# Altium footprint library Connectors.PcbLib: 6 footprints
Each footprint in its own frame and in the unit in brackets; x right, y up, seen from the top. Pads: shape width x height; smd on the part's side, far side on the other; paste and mask are expansions set on the pad; w line width, h text height; cw(c..) or ccw(c..) is an arc to the next point about the centre after c.
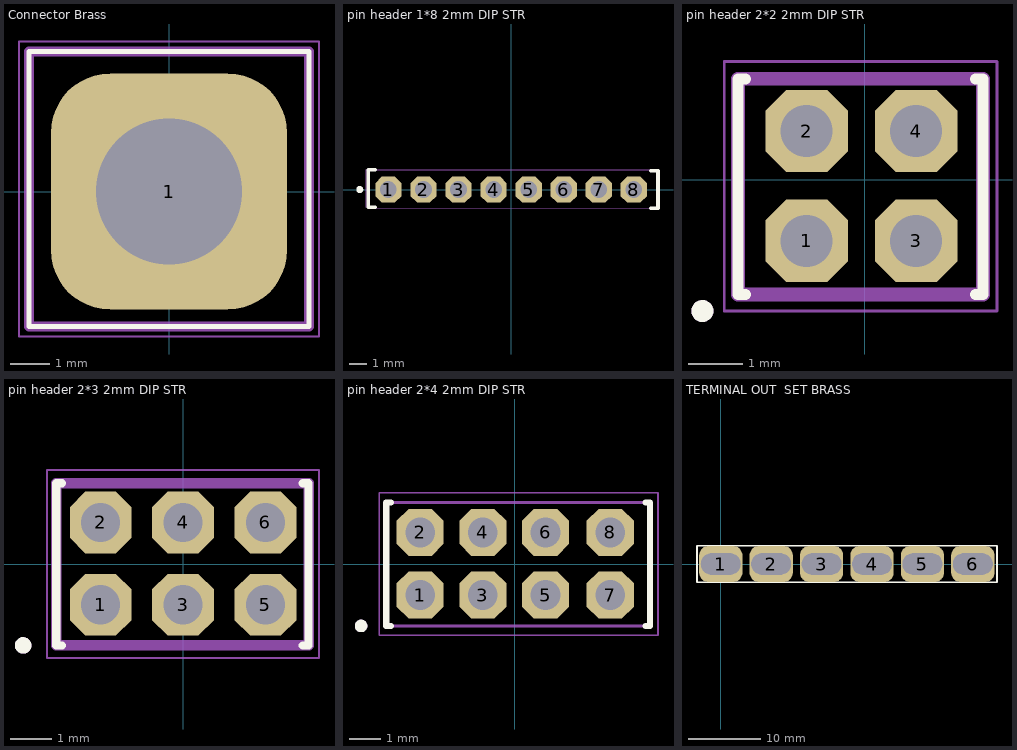
[diagram p0: the footprints below, top view; thin cyan lines are the x and y axes]

## Connector Brass [mm]
pads (1):
  rrect50% 6x6 / inner rrect50% 0x0 / far side rrect50% 0x0 hole 3.7: 1(0,0)
Top Overlay:
  lines w0.127: -3.556,-3.429 -3.556,3.556 3.556,3.556 3.556,-3.429 -3.556,-3.429
Mechanical 4:
  lines w0.127: -3.556,-3.429 3.556,-3.429 3.556,3.556 -3.556,3.556 -3.556,-3.429
Top Courtyard:
  lines w0.254: -3.556,-3.429 -3.556,3.556 3.556,3.556 3.556,-3.429 -3.556,-3.429
Mechanical 16:
  lines w0.05: -3.81,-3.683 -3.81,3.81 3.81,3.81 3.81,-3.683 -3.81,-3.683
3D body "NORDEX-DEFAULT.step": height 6, standoff -1.54, extent -2.413,-2.413 2.413,2.413

## pin header 1*8 2mm DIP STR [mm] "pin header 1*8 2mm DIP STR"
pads (8):
  oct 1.501x1.501 / inner oct 1.524x1.524 / far side oct 1.501x1.501 hole 0.95: 1(-7,0) 2(-5,0) 3(-3,0) 4(-1,0) 5(1,0) 6(3,0) 7(5,0) 8(7,0)
Top Overlay:
  circle w0.2: c-8.636,0 r0.1
  lines w0.2: -7.747,-1.016 -8.159,-1.016 -8.159,1.143 -7.747,1.143 ; 7.97,-1.079 8.382,-1.079 8.382,1.079 7.97,1.079
Mechanical 15:
  lines w0.05: -8.255,-1.016 -8.255,1.143 8.382,1.143 8.382,-1.079 -8.096,-1.035

## pin header 2*2 2mm DIP STR [mm] "pin header 2*4 2mm DIP STR"
pads (4):
  oct 1.501x1.501 / inner oct 1.524x1.524 / far side oct 1.501x1.501 hole 0.95: 1(-1.063,-1.116) 2(-1.063,0.889) 3(0.937,-1.116) 4(0.937,0.889)
Top Overlay:
  circle w0.2: c-2.967,-2.4 r0.1
  lines w0.2: -2.177,-2.097 -2.317,-2.097 -2.317,1.843 -2.177,1.843 ; 2.019,-2.097 2.159,-2.097 2.159,1.843 2.019,1.843
Top Courtyard:
  lines w0.254: -2.317,-2.097 2.159,-2.097 2.159,1.843 -2.317,1.843 -2.317,-2.097
Mechanical 13:
  circle w0.2: c-2.967,-2.4 r0.1
  lines w0.1: -2.317,-2.097 -2.317,1.843 ; -2.317,-2.097 2.159,-2.097 2.159,1.843 -2.317,1.843 ; -2.317,-2.097 -2.317,1.843
Mechanical 15:
  lines w0.05: -2.567,-2.4 2.413,-2.4 2.413,2.159 -2.567,2.159 -2.567,-2.4
3D body "62000421121.stp": height 6.01, standoff -2.69, extent -2.127,-2.127 1.873,1.873

## pin header 2*3 2mm DIP STR [mm]
pads (6):
  oct 1.501x1.501 / inner oct 1.524x1.524 / far side oct 1.501x1.501 hole 0.95: 1(-2,-0.984) 2(-2,1.016) 3(0,-0.984) 4(0,1.016) 5(2,-0.984) 6(2,1.016)
Top Overlay:
  circle w0.2: c-3.883,-1.97 r0.1
  lines w0.2: -2.939,-1.97 -3.079,-1.97 -3.079,1.97 -2.939,1.97 ; 2.908,-1.97 3.048,-1.97 3.048,1.97 2.908,1.97
Top Courtyard:
  lines w0.254: -3.079,-1.97 3.048,-1.97 3.048,1.97 -3.079,1.97 -3.079,-1.97
Mechanical 13:
  circle w0.2: c-3.883,-1.97 r0.1
  lines w0.1: 2.978,1.97 -3.079,1.97 ; -3.079,-1.97 -3.079,-1.716 -3.079,1.97 ; -3.079,-1.97 3.048,-1.97 3.048,1.97 -3.079,1.97 ; -3.079,-1.97 -3.079,1.97
Mechanical 15:
  lines w0.05: -3.302,-2.273 -3.302,2.286 3.302,2.286 3.302,-2.273 -3.302,-2.273
3D body "62000621121.stp": height 6.01, standoff -2.69, extent -3,-2 3,2

## pin header 2*4 2mm DIP STR [mil] "pin header 2*4 2mm DIP STR"
pads (8):
  oct 59.08x59.08 / inner oct 60x60 / far side oct 59.08x59.08 hole 37.4: 1(-118.74,-38.74) 2(-118.74,40) 3(-40,-38.74) 4(-40,40) 5(38.74,-38.74) 6(38.74,40) 7(120,-38.74) 8(120,40)
Top Overlay:
  circle w7.87: c-192.87,-77.56 r3.94
  lines w7.87: -155.71,-77.56 -161.22,-77.56 -161.22,77.56 -155.71,77.56 ; 164.49,-77.56 170,-77.56 170,77.56 164.49,77.56
Mechanical 13:
  circle w7.87: c-192.87,-77.56 r3.94
  lines w3.94: 77.24,77.56 -161.22,77.56 ; -161.22,-77.56 -161.22,-67.56 -161.22,77.56 ; -161.22,-77.56 170,-77.56 170,77.56 -161.22,77.56 ; -161.22,-77.56 -161.22,77.56
Mechanical 15:
  lines w1.97: -170,-89.47 -170,90 180,90 180,-89.47 -170,-89.47
3D body "62000821121.stp": height 236.72, standoff -105.8, extent -157.48,-83.73 157.48,73.74

## TERMINAL OUT  SET BRASS [mm] "TERMINAL OUT  SET BRASS"
pads (6):
  rrect50% 6x5 hole 3 slot 5.5 at 0 deg: 1(0,0) 2(7,0) 3(14,0) 4(21,0) 5(28,0) 6(35,0)
Top Overlay:
  lines w0.254: -3.302,-2.54 -3.302,2.54 38.354,2.54 38.354,-2.54 -3.302,-2.54
3D body "NORDEX-DEFAULT.step": height 6, standoff -1.54, extent 32.587,-2.413 37.413,2.413
3D body "NORDEX-DEFAULT.step": height 6, standoff -1.54, extent 25.587,-2.413 30.413,2.413
3D body "NORDEX-DEFAULT.step": height 6, standoff -1.54, extent 18.587,-2.413 23.413,2.413
3D body "NORDEX-DEFAULT.step": height 6, standoff -1.54, extent 11.587,-2.413 16.413,2.413
3D body "NORDEX-DEFAULT.step": height 6, standoff -1.54, extent 4.587,-2.413 9.413,2.413
3D body "NORDEX-DEFAULT.step": height 6, standoff -1.54, extent -2.413,-2.413 2.413,2.413